# Altium footprint library rcl.PCBLIB: 487 footprints (part 16 of 31)
Each footprint in its own frame and in the unit in brackets; x right, y up, seen from the top. Pads: shape width x height; smd on the part's side, far side on the other; paste and mask are expansions set on the pad; w line width, h text height; cw(c..) or ccw(c..) is an arc to the next point about the centre after c.
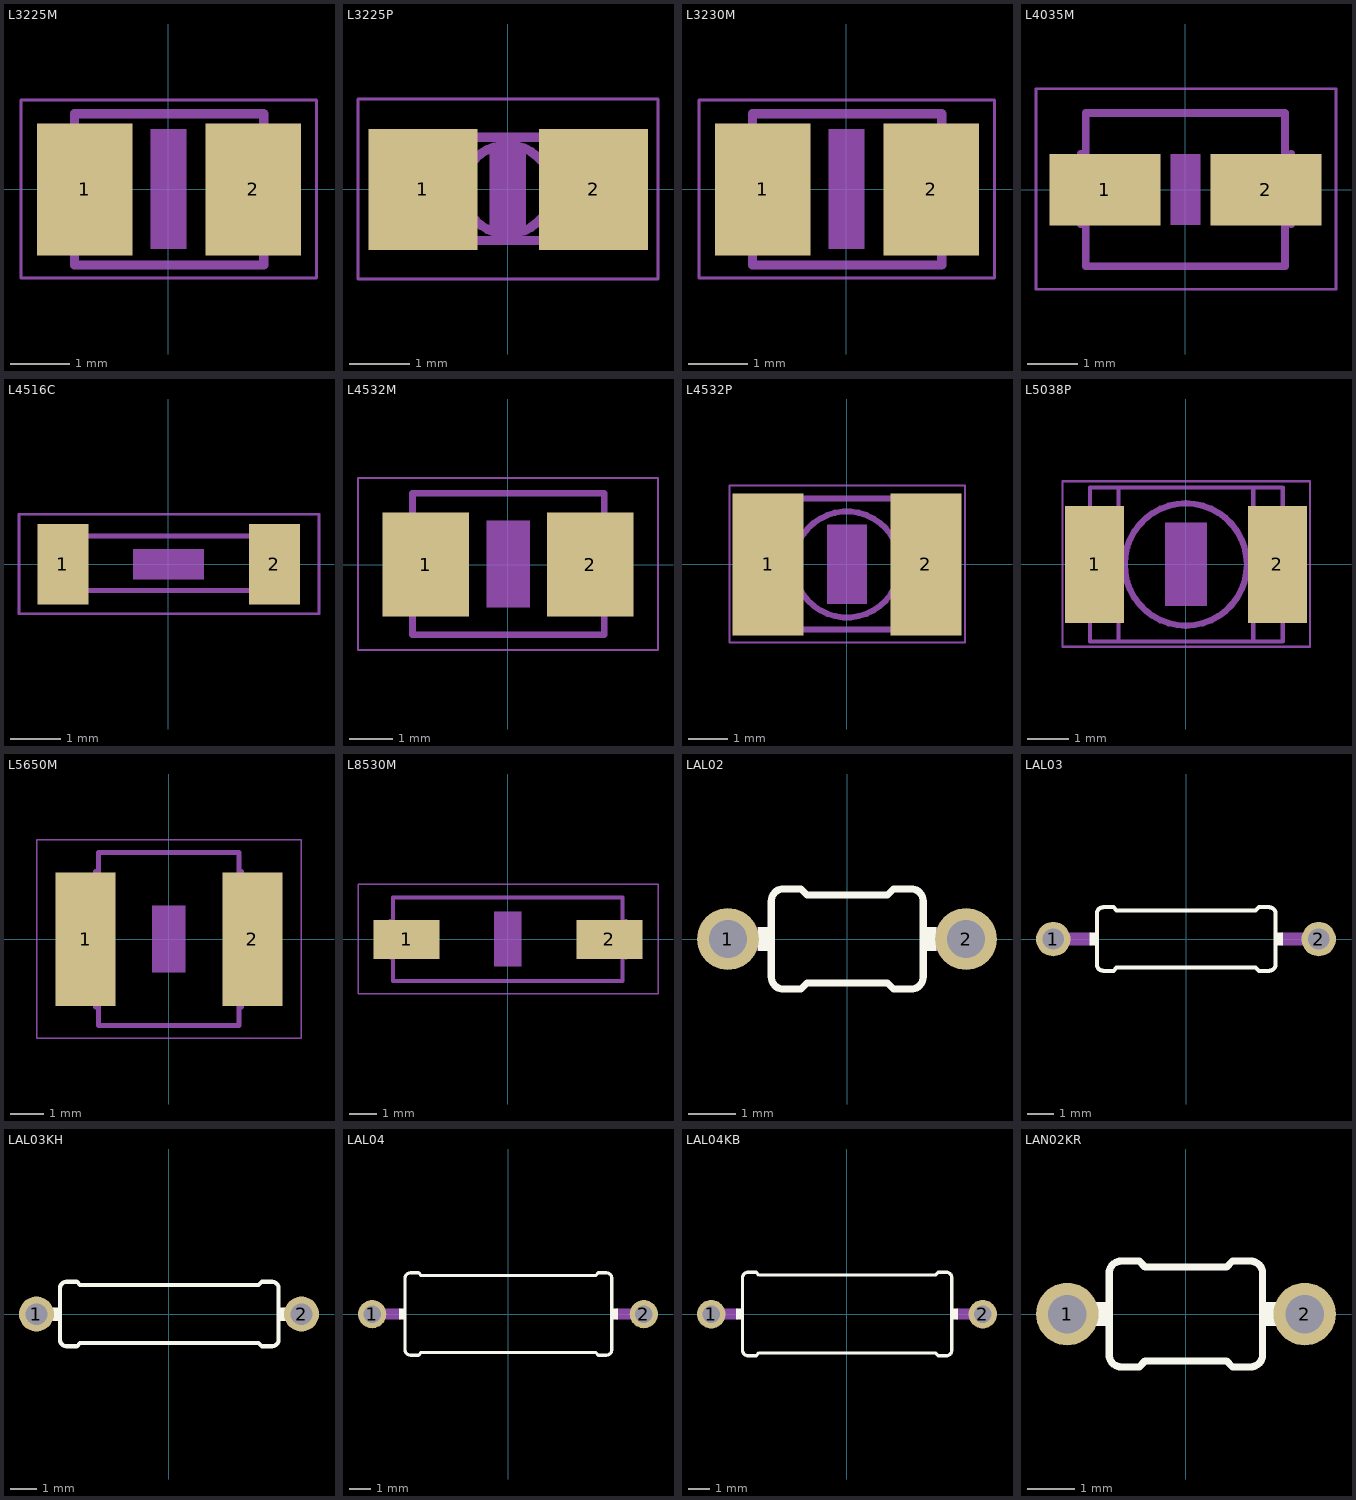
[diagram p15: the footprints below, top view; thin cyan lines are the x and y axes]

## L3225M [mil]
pads (2):
  rect 63x87 smd: 1(-55.12,0) 2(56,0)
Mechanical 6:
  rectangle: -11.81,-39.37 12,40
Mechanical 16:
  lines w6: -65,-37.01 -65,38 ; 65,-37.01 65,38 ; -62.01,-50 63,-50 63,50 -62.01,50 -62.01,-50
Mechanical 27:
  lines w2: -97.36,-58.39 98,-58.39 98,59 -97.36,59 -97.36,-58.39

## L3225P [mil]
pads (2):
  rect 71x79 smd: 1(-55.12,0) 2(56,0)
Mechanical 6:
  rectangle: -11.81,-27.56 12,28
Mechanical 16:
  circle w6: c0,0 r29
  lines w6: -65.98,-33.27 66,-33.27 ; -65.98,-32.99 -65.98,33 ; -65.98,34 66,34 ; -45.98,-32.99 -45.98,33 ; 46,-32.99 46,33 ; 66,-32.99 66,33
Mechanical 27:
  lines w2: -97.36,-58.39 98,-58.39 98,59 -97.36,59 -97.36,-58.39

## L3230M [mil]
pads (2):
  rect 63x87 smd: 1(-55.12,0) 2(56,0)
Mechanical 6:
  rectangle: -11.81,-39.37 12,40
Mechanical 16:
  lines w6: -65,-37.01 -65,38 ; 65,-37.01 65,38 ; -62.01,-50 63,-50 63,50 -62.01,50 -62.01,-50
Mechanical 27:
  lines w2: -97.36,-58.39 98,-58.39 98,59 -97.36,59 -97.36,-58.39

## L4035M [mil]
pads (2):
  rect 87x56 smd: 1(-62.99,0) 2(63,0)
Mechanical 6:
  rectangle: -11.81,-27.56 12,28
Mechanical 16:
  lines w6: -82.01,-27.01 -82.01,28 ; 83,-27.01 83,28 ; -77.99,-60 -77.99,60 78,60 78,-60 -77.99,-60
Mechanical 27:
  lines w2: -117.05,-78.07 118,-78.07 118,79 -117.05,79 -117.05,-78.07

## L4516C [mil]
pads (2):
  rect 40x63 smd: 1(-82.68,0) 2(83,0)
Mechanical 6:
  rectangle: -27.56,-11.81 28,12
Mechanical 16:
  rectangle: -94.5,-23.5 -63,24
  rectangle: 63,-23.74 95,24
  lines w4: -64.02,-20.75 65,-20.75 ; -64.02,22 65,22
Mechanical 27:
  lines w2: -117.05,-38.7 118,-38.7 118,39 -117.05,39 -117.05,-38.7

## L4532M [mil]
pads (2):
  rect 79x95 smd: 1(-74.8,0) 2(75,0)
Mechanical 6:
  rectangle: -19.69,-39.37 20,40
Mechanical 16:
  lines w6: -92.01,-40.98 -92.01,41 ; 93,-40.98 93,41 ; -87.01,-64.02 88,-64.02 88,65 -87.01,65 -87.01,-64.02
Mechanical 27:
  lines w2: -136.73,-78.07 137,-78.07 137,79 -136.73,79 -136.73,-78.07

## L4532P [mil]
pads (2):
  rect 71x142 smd: 1(-78.74,0) 2(79,0)
Mechanical 6:
  rectangle: -19.69,-39.37 20,40
Mechanical 16:
  circle w6: c0,0 r53
  lines w6: -90.98,-65.08 91,-65.08 ; -90.98,-64.02 -90.98,65 ; -90.98,66 91,66 91,-64.02 ; -57.01,-64.02 -57.01,65 ; 58,-64.02 58,65
Mechanical 27:
  lines w2: -117.05,-78.07 118,-78.07 118,79 -117.05,79 -117.05,-78.07

## L5038P [mil]
pads (2):
  rect 56x111 smd: 1(-86.61,0) 2(87,0)
Mechanical 6:
  rectangle: -19.69,-39.37 20,40
Mechanical 16:
  circle w6: c0,0 r58
  lines w4: -93.94,-50 -93.94,50 ; -90.94,-72.99 -90.94,73 ; -90,-73.07 91,-73.07 ; -90,73 91,73 ; -63.94,-72.99 -63.94,73 ; 64,-72.99 64,73 ; 92,-72.99 92,73 ; 95,-50 95,50
Mechanical 27:
  lines w2: -117.05,-78.07 118,-78.07 118,79 -117.05,79 -117.05,-78.07

## L5650M [mil]
pads (2):
  rect 71x158 smd: 1(-98.43,0) 2(99,0)
Mechanical 6:
  rectangle: -19.69,-39.37 20,40
Mechanical 16:
  lines w6: -87.01,-80 -87.01,80 ; 86,-80 86,80 ; -82.99,-102.01 83,-102.01 83,103 -82.99,103 -82.99,-102.01
Mechanical 27:
  lines w2: -156.42,-117.44 157,-117.44 157,118 -156.42,118 -156.42,-117.44

## L8530M [mil]
pads (2):
  rect 95x56 smd: 1(-145.67,0) 2(146,0)
Mechanical 6:
  rectangle: -19.69,-39.37 20,40
Mechanical 16:
  lines w6: -169.02,-25.98 -169.02,26 ; 170,-25.98 170,26 ; -165,-60 -165,60 165,60 165,-60 -165,-60
Mechanical 27:
  lines w2: -215.47,-78.07 216,-78.07 216,79 -215.47,79 -215.47,-78.07

## LAL02 [mil]
pads (2):
  round 52 hole 32: 1(-100,0) 2(100,0)
Top Overlay:
  rectangle: 64,-10 75,10
  rectangle: -74.8,-10 -63.58,10
  lines w6: -63.58,-31.97 ccw(c-53.58,-31.97) -53.58,-41.97 -38.58,-41.97 -33.58,-36.97 34,-36.97 39,-41.97 54,-41.97 ccw(c54,-31.97) 64,-31.97 64,32 ccw(c54,32) 54,42 39,42 34,37 -33.58,37 -38.58,42 -53.58,42 ccw(c-53.58,32) -63.58,32 -63.58,-31.97
Mechanical 16:
  lines w20: -100,0 -75,0 ; 75,0 100,0

## LAL03 [mil]
pads (2):
  round 52 hole 32: 1(-200,0) 2(200,0)
Top Overlay:
  rectangle: 135,-10 146,10
  rectangle: -145.67,-10 -134.45,10
  lines w6: -134.45,-37.87 ccw(c-124.45,-37.87) -124.45,-47.87 -109.45,-47.87 -104.45,-42.87 105,-42.87 110,-47.87 125,-47.87 ccw(c125,-37.87) 135,-37.87 135,38 ccw(c125,38) 125,48 110,48 105,43 -104.45,43 -109.45,48 -124.45,48 ccw(c-124.45,38) -134.45,38 -134.45,-37.87
Mechanical 16:
  lines w20: -200,0 -145.87,0 ; 146,0 200,0

## LAL03KH [mil]
pads (2):
  round 52 hole 32: 1(-196.85,0) 2(197,0)
Top Overlay:
  rectangle: 163,-10 174,10
  rectangle: -173.23,-10 -162.01,10
  lines w6: -162.01,-37.87 ccw(c-152.01,-37.87) -152.01,-47.87 -137.01,-47.87 -132.01,-42.87 133,-42.87 138,-47.87 153,-47.87 ccw(c153,-37.87) 163,-37.87 163,38 ccw(c153,38) 153,48 138,48 133,43 -132.01,43 -137.01,48 -152.01,48 ccw(c-152.01,38) -162.01,38 -162.01,-37.87
Mechanical 16:
  lines w20: -196.85,0 -173.43,0 ; 174,0 197,0

## LAL04 [mil]
pads (2):
  round 52 hole 32: 1(-250,0) 2(250,0)
Top Overlay:
  rectangle: 191,-10 202,10
  rectangle: -200.79,-10 -189.57,10
  lines w6: -189.57,-65.43 ccw(c-179.57,-65.43) -179.57,-75.43 -164.57,-75.43 -159.57,-70.43 161,-70.43 166,-75.43 181,-75.43 ccw(c181,-65.43) 191,-65.43 191,66 ccw(c181,66) 181,76 166,76 161,71 -159.57,71 -164.57,76 -179.57,76 ccw(c-179.57,66) -189.57,66 -189.57,-65.43
Mechanical 16:
  lines w20: -250,0 -200.98,0 ; 202,0 250,0

## LAL04KB [mil]
pads (2):
  round 52 hole 32: 1(-246.06,0) 2(247,0)
Top Overlay:
  rectangle: 191,-10 202,10
  rectangle: -200.79,-10 -189.57,10
  lines w6: -189.57,-65.43 ccw(c-179.57,-65.43) -179.57,-75.43 -164.57,-75.43 -159.57,-70.43 161,-70.43 166,-75.43 181,-75.43 ccw(c181,-65.43) 191,-65.43 191,66 ccw(c181,66) 181,76 166,76 161,71 -159.57,71 -164.57,76 -179.57,76 ccw(c-179.57,66) -189.57,66 -189.57,-65.43
Mechanical 16:
  lines w20: -246.06,0 -200.98,0 ; 202,0 247,0

## LAN02KR [mil]
pads (2):
  round 52 hole 32: 1(-98.43,0) 2(99,0)
Top Overlay:
  rectangle: 64,-10 75,10
  rectangle: -74.8,-10 -63.58,10
  lines w6: -63.58,-33.94 ccw(c-53.58,-33.94) -53.58,-43.94 -38.58,-43.94 -33.58,-38.94 34,-38.94 39,-43.94 54,-43.94 ccw(c54,-33.94) 64,-33.94 64,34 ccw(c54,34) 54,44 39,44 34,39 -33.58,39 -38.58,44 -53.58,44 ccw(c-53.58,34) -63.58,34 -63.58,-33.94
Mechanical 16:
  lines w20: -98.43,0 -75,0 ; 75,0 99,0